# Altium integrated library Murata_Wireless.IntLib: 1 symbol
Pins are listed as number, name and electrical type; pins without a type are passive.

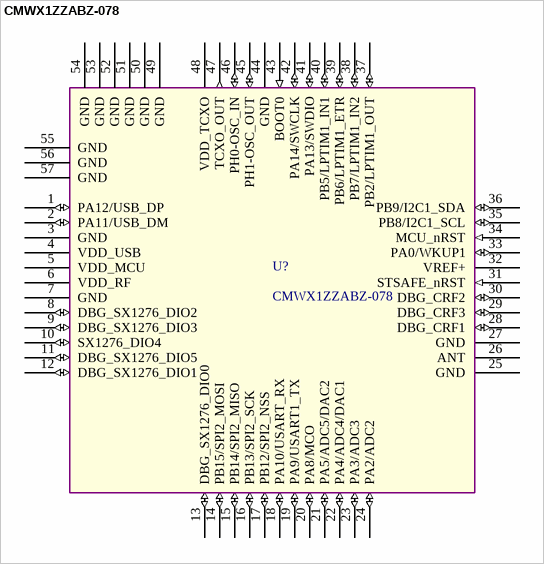
[diagram p0: symbol CMWX1ZZABZ-078]

## CMWX1ZZABZ-078
designator U?
LoRa module; Supplier 1: Mouser; Supplier Part Number 1: 81-CMWX1ZZABZ-078; ComponentLink1Description: Datasheet; ComponentLink1URL: https://wireless.murata.com/RFM/data/type_abz.pdf
footprint Murata_CMWX1ZZABZ-078_LoRa_Module (Murata LoRa module)
pins: 1 PA12/USB_DP (io) "GPIO Mode:PA12.(Power supplied by VDD_USB)  USB_DP", 2 PA11/USB_DM (io) "GPIO Mode:PA11,( Power supplied by VDD_USB)  USB_DM", 3 GND (power) "Ground", 4 VDD_USB (power) "Power supply for USB", 5 VDD_MCU (power) "Power supply for MCU", 6 VDD_RF (power) "Power supply for RF IC", 7 GND (power) "Ground", 8 DBG_SX1276_DIO2 (io) "Debug pin for SX1276, customer cannot use it", 9 DBG_SX1276_DIO3 (io) "Debug pin for SX1276, customer cannot use it", 10 SX1276_DIO4 (io) "SX1276 DIO4. Possible to connect to Pin21 PA5 for future usage. Contact ST for further information", 11 DBG_SX1276_DIO5 (io) "Debug pin for SX1276. Possible to connect to Pin22 PA4 for future usage. Contact ST for further information", 12 DBG_SX1276_DIO1 (io) "Debug pin for SX1276, customer cannot use it", 13 DBG_SX1276_DIO0 (io) "Debug pin for SX1276, customer cannot use it", 14 PB15/SPI2_MOSI (io) "GPIO Mode:PB15  SPI2_MOSI", 15 PB14/SPI2_MISO (io) "GPIO Mode:PB14  SPI2_ MISO", 16 PB13/SPI2_SCK (io) "GPIO Mode:PB13  SPI2_SCK", 17 PB12/SPI2_NSS (io) "GPIO Mode:PB12  SPI2_NSS", 18 PA10/USART_RX (io) "GPIO Mode:PA10  USART1_RX", 19 PA9/USART1_TX (io) "GPIO Mode:PA9  USART1_TX", 20 PA8/MCO (io) "GPIO Mode:PA8  MCO", 21 PA5/ADC5/DAC2 (io) "GPIO Mode:PA5  COMP2_INM  ADC_IN5  DAC_OUT2  Possible to connect to Pin10 for future usage. Contact ST for more information", 22 PA4/ADC4/DAC1 (io) "GPIO Mode:PA4  COMP2_INM  ADC_IN4  DAC_OUT1  Possible to connect to Pin11 for future usage. Contact ST for more information", 23 PA3/ADC3 (io) "GPIO Mode:PA3  COMP2_ INP  ADC_IN3  USART2_RX", 24 PA2/ADC2 (io) "GPIO Mode:PA2  COMP2_OUT  ADC_IN2  USART2_TX", 25 GND (power) "Ground", 26 ANT "Transmit / Receive Antenna", 27 GND (power) "Ground", 28 DBG_CRF1 (io) "Debug pin. Cannot be used as GPIO", 29 DBG_CRF3 (io) "Debug pin. Cannot be used as GPIO", 30 DBG_CRF2 (io) "Debug pin. Cannot be used as GPIO", 31 STSAFE_nRST (in) "Reset for Security IC", 32 VREF+ (power) "Reference Voltage For ADC and DAC", 33 PA0/WKUP1 (io) "GPIO Mode:PA0  COMP1_OUT  ADC_IN0", 34 MCU_nRST (in) "NRST", 35 PB8/I2C1_SCL (io) "GPIO Mode:PB8  I2C mode: SCL", 36 PB9/I2C1_SDA (io) "GPIO Mode: PB9  I2C mode: SDA", 37 PB2/LPTIM1_OUT (io) "GPIO Mode:PB2  LPTIM1_OUT", 38 PB7/LPTIM1_IN2 (io) "GPIO Mode:PB7 LPTIM1_IN2", 39 PB6/LPTIM1_ETR (io) "GPIO Mode:PB6  LPTIM1_ETR", 40 PB5/LPTIM1_IN1 (io) "GPIO Mode:PB5  LPTIM1_IN1", 41 PA13/SWDIO (io) "GPIO Mode:PA13  SWDIO  LPUART1_RX", 42 PA14/SWCLK (io) "GPIO Mode:PA14  SWCLK  LPUART1_TX", 43 BOOT0 (in) "Boot Option", 44 GND (power) "Ground", 45 PH1-OSC_OUT (io) "GPIO Mode:PH1  High-speed external clock OSC output", 46 PH0-OSC_IN (io) "GPIO Mode:PH0  High-speed external clock OSC input", 47 TCXO_OUT (out) "Internal TCXO output", 48 VDD_TCXO "Power supply for the TCXO IC", 49 GND (power) "Ground", 50 GND (power) "Ground", 51 GND (power) "Ground", 52 GND (power) "Ground", 53 GND (power) "Ground", 54 GND (power) "Ground", 55 GND (power) "Ground", 56 GND (power) "Ground", 57 GND (power) "Ground"